# EAGLE library part ATMEGA128RFA1-THERMAL-PAD_ (library NVSL)
8-bit Microcontroller with Low Power 2.4GHz Transceiver for ZigBee and IEEE 802.15.4 and optional use thermal pad
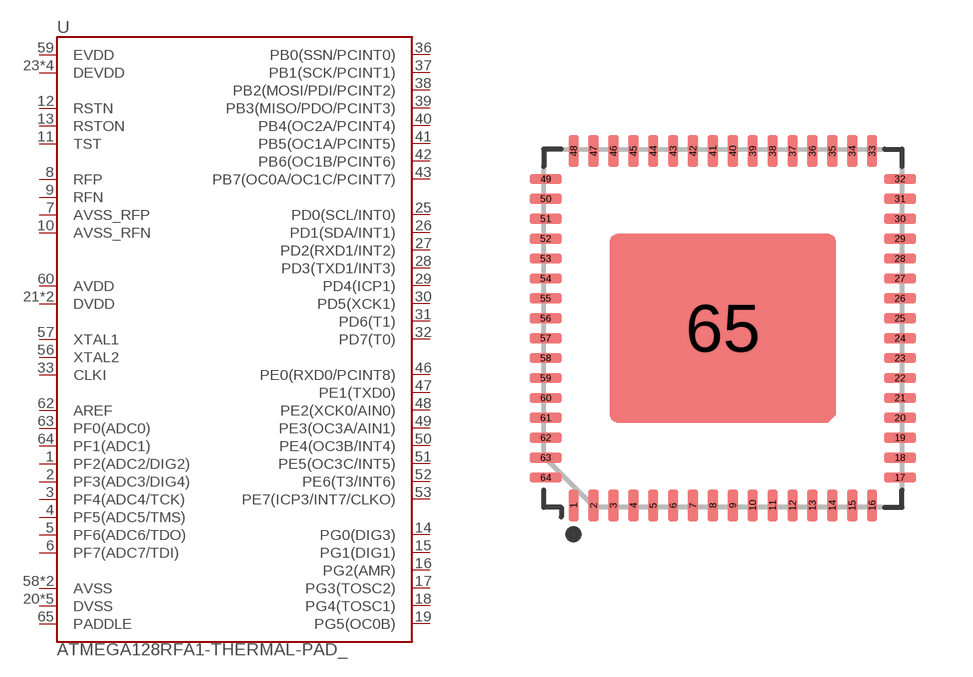
[diagram p1: symbol with the pads of QFN50P900X900X100-65T475X565_HS; footprint QFN50P900X900X100-65T475X565_HS]

Designator prefix U

## ATMEGA128RFA1-THERMAL-PAD_QFN64+1  [QFN50P900X900X100-65T475X565_HS]
1  PF2(ADC2/DIG2)
2  PF3(ADC3/DIG4)
3  PF4(ADC4/TCK)
4  PF5(ADC5/TMS)
5  PF6(ADC6/TDO)
6  PF7(ADC7/TDI)
7  AVSS_RFP  pwr
8  RFP
9  RFN
10  AVSS_RFN  pwr
11  TST  in
12  RSTN  in
13  RSTON  out
14  PG0(DIG3)
15  PG1(DIG1)
16  PG2(AMR)
17  PG3(TOSC2)
18  PG4(TOSC1)
19  PG5(OC0B)
20  DVSS  pwr
21  DVDD  pwr
22  DVDD  pwr
23  DEVDD  pwr
24  DVSS  pwr
25  PD0(SCL/INT0)
26  PD1(SDA/INT1)
27  PD2(RXD1/INT2)
28  PD3(TXD1/INT3)
29  PD4(ICP1)
30  PD5(XCK1)
31  PD6(T1)
32  PD7(T0)
33  CLKI  in
34  DEVDD  pwr
35  DVSS  pwr
36  PB0(SSN/PCINT0)
37  PB1(SCK/PCINT1)
38  PB2(MOSI/PDI/PCINT2)
39  PB3(MISO/PDO/PCINT3)
40  PB4(OC2A/PCINT4)
41  PB5(OC1A/PCINT5)
42  PB6(OC1B/PCINT6)
43  PB7(OC0A/OC1C/PCINT7)
44  DEVDD  pwr
45  DVSS  pwr
46  PE0(RXD0/PCINT8)
47  PE1(TXD0)
48  PE2(XCK0/AIN0)
49  PE3(OC3A/AIN1)
50  PE4(OC3B/INT4)
51  PE5(OC3C/INT5)
52  PE6(T3/INT6)
53  PE7(ICP3/INT7/CLKO)
54  DEVDD  pwr
55  DVSS  pwr
56  XTAL2
57  XTAL1
58  AVSS  pwr
59  EVDD  pwr
60  AVDD  pwr
61  AVSS  pwr
62  AREF  in
63  PF0(ADC0)
64  PF1(ADC1)
65  PADDLE  pwr

## Footprint QFN50P900X900X100-65T475X565_HS (pad centres in mm)
Quad Flat No-Lead (QFN with Tab), 0.50 mm pitch; square, 16 pin X 16 pin, 9.00 mm L X 9.00 mm W X 1.00 mm H body PCB Libraries Packages
smd 0.26 x 0.81: 1 -3.75,-4.45; 2 -3.25,-4.45; 3 -2.75,-4.45; 4 -2.25,-4.45; 5 -1.75,-4.45; 6 -1.25,-4.45; 7 -0.75,-4.45; 8 -0.25,-4.45; 9 0.25,-4.45; 10 0.75,-4.45; 11 1.25,-4.45; 12 1.75,-4.45; 13 2.25,-4.45; 14 2.75,-4.45; 15 3.25,-4.45; 16 3.75,-4.45; 33 3.75,4.45; 34 3.25,4.45; 35 2.75,4.45; 36 2.25,4.45; 37 1.75,4.45; 38 1.25,4.45; 39 0.75,4.45; 40 0.25,4.45; 41 -0.25,4.45; 42 -0.75,4.45; 43 -1.25,4.45; 44 -1.75,4.45; 45 -2.25,4.45; 46 -2.75,4.45; 47 -3.25,4.45; 48 -3.75,4.45
smd 0.81 x 0.26: 17 4.45,-3.75; 18 4.45,-3.25; 19 4.45,-2.75; 20 4.45,-2.25; 21 4.45,-1.75; 22 4.45,-1.25; 23 4.45,-0.75; 24 4.45,-0.25; 25 4.45,0.25; 26 4.45,0.75; 27 4.45,1.25; 28 4.45,1.75; 29 4.45,2.25; 30 4.45,2.75; 31 4.45,3.25; 32 4.45,3.75; 49 -4.45,3.75; 50 -4.45,3.25; 51 -4.45,2.75; 52 -4.45,2.25; 53 -4.45,1.75; 54 -4.45,1.25; 55 -4.45,0.75; 56 -4.45,0.25; 57 -4.45,-0.25; 58 -4.45,-0.75; 59 -4.45,-1.25; 60 -4.45,-1.75; 61 -4.45,-2.25; 62 -4.45,-2.75; 63 -4.45,-3.25; 64 -4.45,-3.75
smd 5.25 x 4.35: 65 0,0